# Altium schematic symbol library Bourns.SchLib: 5 symbols
Pins are listed as number, name and electrical type; pins without a type are passive.

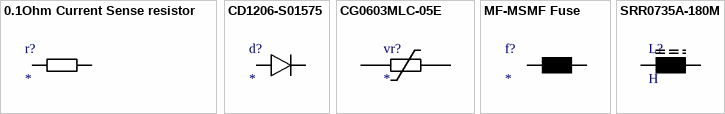
[diagram p0: symbols 0.1Ohm Current Sense resistor to SRR0735A-180M]

## 0.1Ohm Current Sense resistor
designator r?
2512
footprint 2512
pins: 1, 2

## CD1206-S01575
designator d?
Switching Chip Diode
footprint 1206 - DIODE (Generic Package)
pins: 1 Kathode, 2 Anode

## CG0603MLC-05E
designator vr?
5V, 8V Varistor - 0603
footprint 0603 (Generic package)
pins: 1, 2

## MF-MSMF Fuse
designator f?
Style 1
footprint PTC Fuses
pins: 1, 2

## SRR0735A-180M
designator L?, comment H
Shielded Power Inducor
footprint SMD Inductor 7.4x7.4
pins: 1, 2